# Altium integrated library Microchip Linear.IntLib: 855 symbols (part 14 of 25)
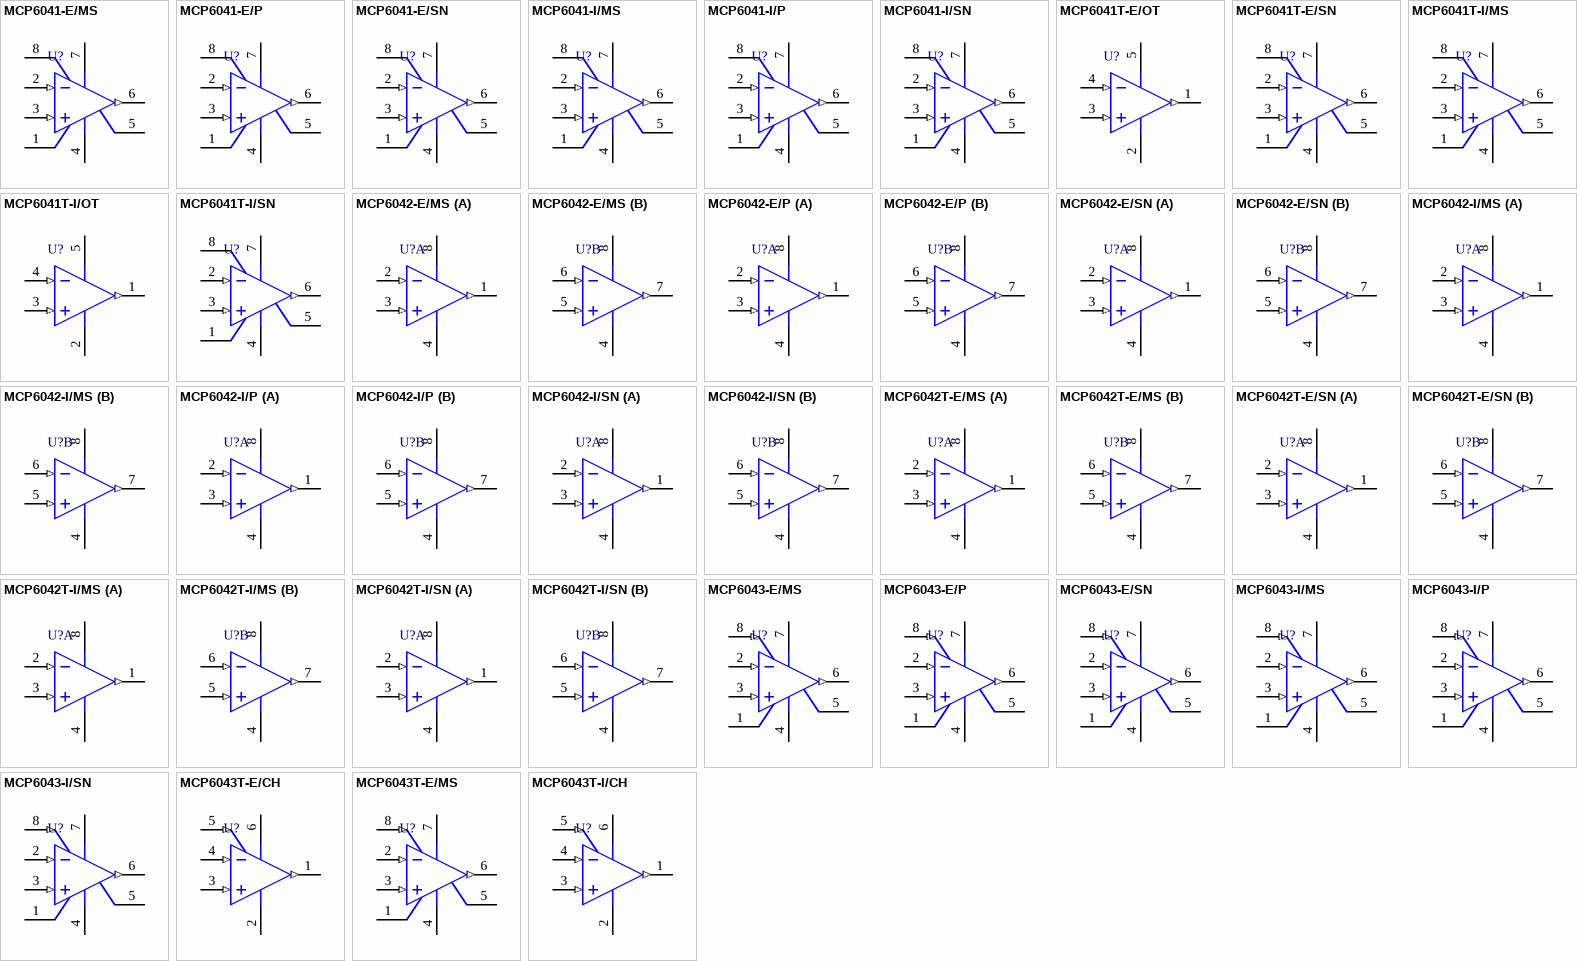
[diagram p54: symbols MCP6041-E/MS to MCP6043T-I/CH]

## MCP6043-I/MS
designator U?
600 nA, Rail-to-Rail Input/Output Operational Amplifier, 8-Pin MSOP, Industrial Temperature; Manufacturer: Microchip; PartNumber: MCP6043-I/MS; DatasheetVersion: revC, Feb-2008; PackageVersion: revBB, Aug-2009; PackageReference: MSOP-MS8; PackageDescription: 8-Lead Plastic Micro Small Outline Package (MS) [MSOP]; Supplier 1: Digi-Key; Supplier Part Number 1: MCP6043-I/MS-ND; Supplier 2: Mouser; Supplier Part Number 2: 579-MCP6043-I/MS; Mounting Technology: Surface Mount; ComponentLink1Description: Manufacturer URL; ComponentLink1URL: http://www.microchip.com/; ComponentLink2Description: Datasheet; ComponentLink2URL: http://ww1.microchip.com/downloads/en/DeviceDoc/21669c.pdf; ComponentLink3Description: Package Specification; ComponentLink3URL: http://www.microchip.com/stellent/groups/techpub_sg/documents/packagingspec/en012702.pdf
footprint MSOP-MS8_N (TSOP, 8-Leads, Body 3x3mm, Pitch 0.65mm, IPC Medium Density)
footprint MSOP-MS8_L (TSOP, 8-Leads, Body 3x3mm, Pitch 0.65mm, IPC High Density)
footprint MSOP-MS8_M (TSOP, 8-Leads, Body 3x3mm, Pitch 0.65mm, IPC Low Density)
pins: 1 NC, 2 VIN- (in), 3 VIN+ (in), 4 VSS (power), 5 NC, 6 VOUT (out), 7 VDD (power), 8 ~{CS} (in)

## MCP6043-I/P
designator U?
600 nA, Rail-to-Rail Input/Output Operational Amplifier, 8-Pin PDIP, Industrial Temperature; Manufacturer: Microchip; PartNumber: MCP6043-I/P; DatasheetVersion: revC, Feb-2008; PackageVersion: revBB, Aug-2009; PackageReference: PDIP300-P8; PackageDescription: 8-Lead Plastic Dual In-Line (P) - 300 mil Body [PDIP]; Supplier 1: Digi-Key; Supplier Part Number 1: MCP6043-I/P-ND; Supplier 2: Farnell; Supplier Part Number 2: 1439416; Supplier 3: Mouser; Supplier Part Number 3: 579-MCP6043-I/P; Mounting Technology: Through Hole; Code_JEDEC: MS-001; ComponentLink1Description: Manufacturer URL; ComponentLink1URL: http://www.microchip.com/; ComponentLink2Description: Datasheet; ComponentLink2URL: http://ww1.microchip.com/downloads/en/DeviceDoc/21669c.pdf; ComponentLink3Description: Package Specification; ComponentLink3URL: http://www.microchip.com/stellent/groups/techpub_sg/documents/packagingspec/en012702.pdf
footprint PDIP300-P8 (DIP, 8-Leads, Row Spacing 7.62mm, Pitch 2.54mm, Body 9.5x6.6mm)
pins: 1 NC, 2 VIN- (in), 3 VIN+ (in), 4 VSS (power), 5 NC, 6 VOUT (out), 7 VDD (power), 8 ~{CS} (in)

## MCP6043-I/SN
designator U?
600 nA, Rail-to-Rail Input/Output Operational Amplifier, 8-Pin SOIC, Industrial Temperature; Manufacturer: Microchip; PartNumber: MCP6043-I/SN; DatasheetVersion: revC, Feb-2008; PackageVersion: revBB, Aug-2009; PackageReference: SOIC-SN8; PackageDescription: 8-Lead Plastic Small Outline (SN) - Narrow, 3.90mm Body [SOIC]; Supplier 1: Digi-Key; Supplier Part Number 1: MCP6043-I/SN-ND; Supplier 2: Farnell; Supplier Part Number 2: 1439417; Supplier 3: Mouser; Supplier Part Number 3: 579-MCP6043-I/SN; Mounting Technology: Surface Mount; Code_JEDEC: MS-012; Code_IPC: SOIC127P600-8; ComponentLink1Description: Manufacturer URL; ComponentLink1URL: http://www.microchip.com/; ComponentLink2Description: Datasheet; ComponentLink2URL: http://ww1.microchip.com/downloads/en/DeviceDoc/21669c.pdf; ComponentLink3Description: Package Specification; ComponentLink3URL: http://www.microchip.com/stellent/groups/techpub_sg/documents/packagingspec/en012702.pdf
footprint SOIC-SN8_N (SOIC, 8-Leads, Body 4.9x3.8mm, Pitch 1.27mm, IPC Medium Density)
footprint SOIC-SN8_L (SOIC, 8-Leads, Body 4.9x3.8mm, Pitch 1.27mm, IPC High Density)
footprint SOIC-SN8_M (SOIC, 8-Leads, Body 4.9x3.8mm, Pitch 1.27mm, IPC Low Density)
pins: 1 NC, 2 VIN- (in), 3 VIN+ (in), 4 VSS (power), 5 NC, 6 VOUT (out), 7 VDD (power), 8 ~{CS} (in)

## MCP6043T-E/CH
designator U?
600 nA, Rail-to-Rail Input/Output Operational Amplifier, 6-Pin SOT-23, Extended Temperature, Tape and Reel; Manufacturer: Microchip; PartNumber: MCP6043T-E/CH; DatasheetVersion: revC, Feb-2008; PackageVersion: revBB, Aug-2009; PackageReference: SOT-23-CH6; PackageDescription: 6-Lead Plastic Small Outline Transistor (CH) [SOT-23]; Supplier 1: Digi-Key; Supplier Part Number 1: MCP6043T-E/CH-ND; Supplier 2: Mouser; Supplier Part Number 2: 579-MCP6043T-E/CH; Mounting Technology: Surface Mount; Code_IPC: SOT26A-6; ComponentLink1Description: Manufacturer URL; ComponentLink1URL: http://www.microchip.com/; ComponentLink2Description: Datasheet; ComponentLink2URL: http://ww1.microchip.com/downloads/en/DeviceDoc/21669c.pdf; ComponentLink3Description: Package Specification; ComponentLink3URL: http://www.microchip.com/stellent/groups/techpub_sg/documents/packagingspec/en012702.pdf
footprint SOT-23-CH6_N (SOT23, 6-Leads, Body 2.9x1.6mm, Pitch 0.95mm, Lead Span 2.7mm, IPC Medium Density)
footprint SOT-23-CH6_L (SOT23, 6-Leads, Body 2.9x1.6mm, Pitch 0.95mm, Lead Span 2.7mm, IPC High Density)
footprint SOT-23-CH6_M (SOT23, 6-Leads, Body 2.9x1.6mm, Pitch 0.95mm, Lead Span 2.7mm, IPC Low Density)
pins: 1 VOUT (out), 2 VSS (power), 3 VIN+ (in), 4 VIN- (in), 5 ~{CS} (in), 6 VDD (power)

## MCP6043T-E/MS
designator U?
600 nA, Rail-to-Rail Input/Output Operational Amplifier, 8-Pin MSOP, Extended Temperature, Tape and Reel; Manufacturer: Microchip; PartNumber: MCP6043T-E/MS; DatasheetVersion: revC, Feb-2008; PackageVersion: revBB, Aug-2009; PackageReference: MSOP-MS8; PackageDescription: 8-Lead Plastic Micro Small Outline Package (MS) [MSOP]; Supplier 1: Digi-Key; Supplier Part Number 1: MCP6043T-E/MS-ND; Supplier 2: Mouser; Supplier Part Number 2: 579-MCP6043T-E/MS; Mounting Technology: Surface Mount; ComponentLink1Description: Manufacturer URL; ComponentLink1URL: http://www.microchip.com/; ComponentLink2Description: Datasheet; ComponentLink2URL: http://ww1.microchip.com/downloads/en/DeviceDoc/21669c.pdf; ComponentLink3Description: Package Specification; ComponentLink3URL: http://www.microchip.com/stellent/groups/techpub_sg/documents/packagingspec/en012702.pdf
footprint MSOP-MS8_N (TSOP, 8-Leads, Body 3x3mm, Pitch 0.65mm, IPC Medium Density)
footprint MSOP-MS8_L (TSOP, 8-Leads, Body 3x3mm, Pitch 0.65mm, IPC High Density)
footprint MSOP-MS8_M (TSOP, 8-Leads, Body 3x3mm, Pitch 0.65mm, IPC Low Density)
pins: 1 NC, 2 VIN- (in), 3 VIN+ (in), 4 VSS (power), 5 NC, 6 VOUT (out), 7 VDD (power), 8 ~{CS} (in)

## MCP6043T-I/CH
designator U?
600 nA, Rail-to-Rail Input/Output Operational Amplifier, 6-Pin SOT-23, Industrial Temperature, Tape and Reel; Manufacturer: Microchip; PartNumber: MCP6043T-I/CH; DatasheetVersion: revC, Feb-2008; PackageVersion: revBB, Aug-2009; PackageReference: SOT-23-CH6; PackageDescription: 6-Lead Plastic Small Outline Transistor (CH) [SOT-23]; Supplier 1: Digi-Key; Supplier Part Number 1: MCP6043T-I/CH-ND; Supplier 2: Newark; Supplier Part Number 2: 56J7439; Supplier 3: Mouser; Supplier Part Number 3: 579-MCP6043T-I/CH; Mounting Technology: Surface Mount; Code_IPC: SOT26A-6; ComponentLink1Description: Manufacturer URL; ComponentLink1URL: http://www.microchip.com/; ComponentLink2Description: Datasheet; ComponentLink2URL: http://ww1.microchip.com/downloads/en/DeviceDoc/21669c.pdf; ComponentLink3Description: Package Specification; ComponentLink3URL: http://www.microchip.com/stellent/groups/techpub_sg/documents/packagingspec/en012702.pdf
footprint SOT-23-CH6_N (SOT23, 6-Leads, Body 2.9x1.6mm, Pitch 0.95mm, Lead Span 2.7mm, IPC Medium Density)
footprint SOT-23-CH6_L (SOT23, 6-Leads, Body 2.9x1.6mm, Pitch 0.95mm, Lead Span 2.7mm, IPC High Density)
footprint SOT-23-CH6_M (SOT23, 6-Leads, Body 2.9x1.6mm, Pitch 0.95mm, Lead Span 2.7mm, IPC Low Density)
pins: 1 VOUT (out), 2 VSS (power), 3 VIN+ (in), 4 VIN- (in), 5 ~{CS} (in), 6 VDD (power)

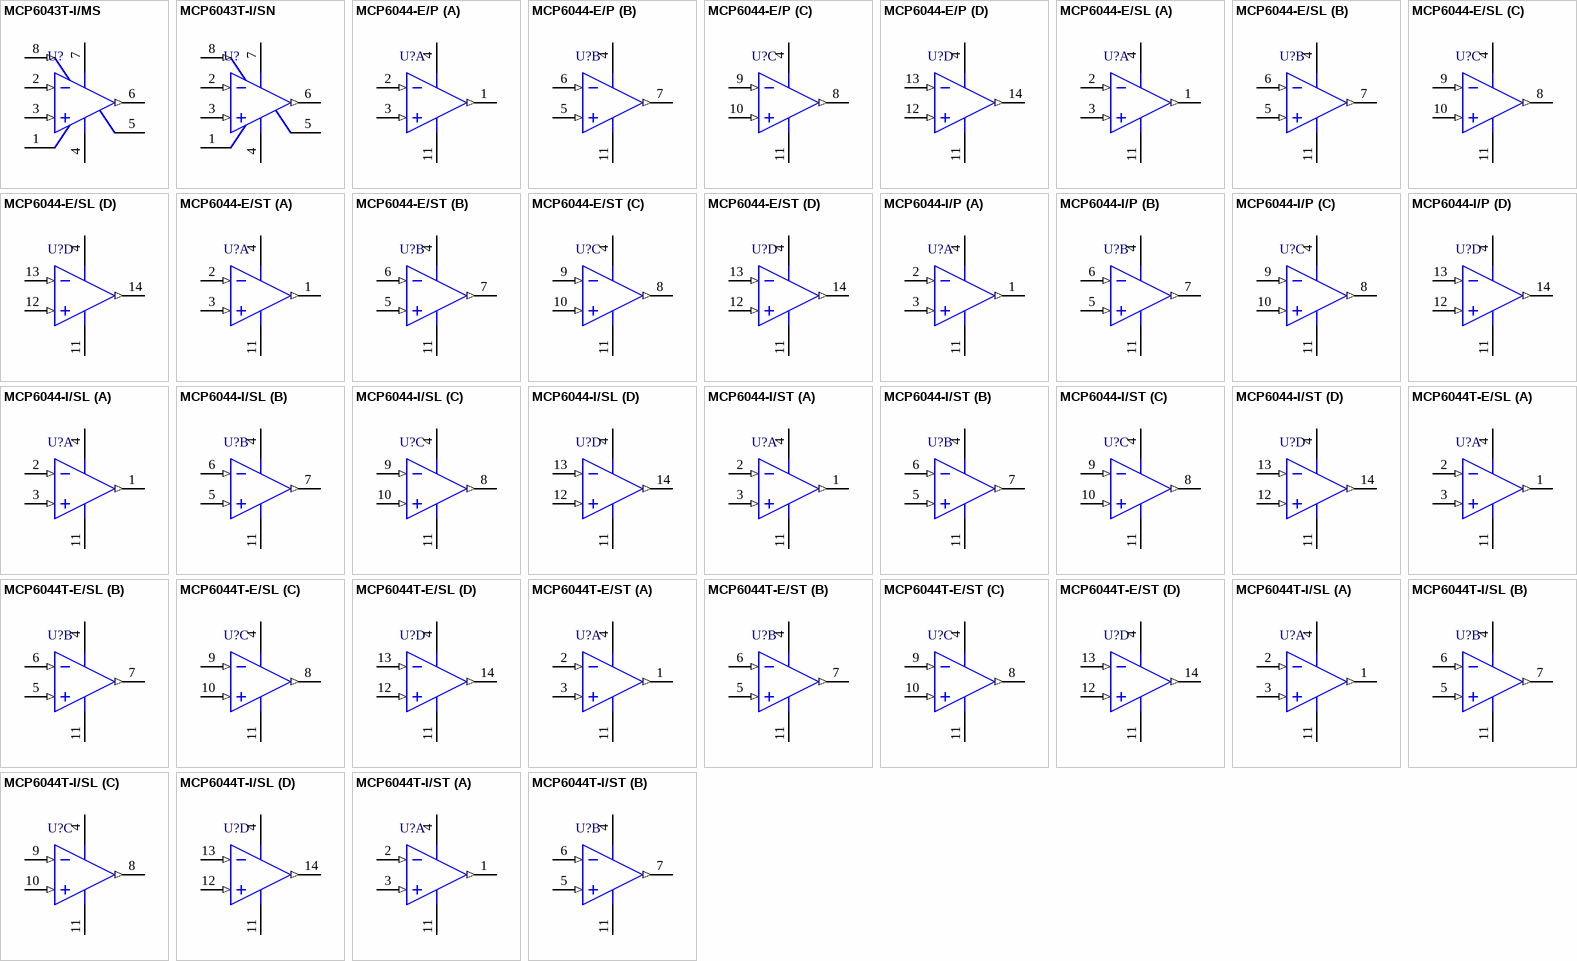
[diagram p22: symbols MCP6043T-I/MS to MCP6044T-I/ST]

## MCP6043T-I/MS
designator U?
600 nA, Rail-to-Rail Input/Output Operational Amplifier, 8-Pin MSOP, Industrial Temperature, Tape and Reel; Manufacturer: Microchip; PartNumber: MCP6043T-I/MS; DatasheetVersion: revC, Feb-2008; PackageVersion: revBB, Aug-2009; PackageReference: MSOP-MS8; PackageDescription: 8-Lead Plastic Micro Small Outline Package (MS) [MSOP]; Supplier 1: Digi-Key; Supplier Part Number 1: MCP6043T-I/MSTR-ND; Supplier 2: Digi-Key; Supplier Part Number 2: MCP6043T-I/MSCT-ND; Supplier 3: Digi-Key; Supplier Part Number 3: MCP6043T-I/MSDKR-ND; Supplier 4: Mouser; Supplier Part Number 4: 579-MCP6043T-I/MS; Mounting Technology: Surface Mount; ComponentLink1Description: Manufacturer URL; ComponentLink1URL: http://www.microchip.com/; ComponentLink2Description: Datasheet; ComponentLink2URL: http://ww1.microchip.com/downloads/en/DeviceDoc/21669c.pdf; ComponentLink3Description: Package Specification; ComponentLink3URL: http://www.microchip.com/stellent/groups/techpub_sg/documents/packagingspec/en012702.pdf
footprint MSOP-MS8_N (TSOP, 8-Leads, Body 3x3mm, Pitch 0.65mm, IPC Medium Density)
footprint MSOP-MS8_L (TSOP, 8-Leads, Body 3x3mm, Pitch 0.65mm, IPC High Density)
footprint MSOP-MS8_M (TSOP, 8-Leads, Body 3x3mm, Pitch 0.65mm, IPC Low Density)
pins: 1 NC, 2 VIN- (in), 3 VIN+ (in), 4 VSS (power), 5 NC, 6 VOUT (out), 7 VDD (power), 8 ~{CS} (in)

## MCP6043T-I/SN
designator U?
600 nA, Rail-to-Rail Input/Output Operational Amplifier, 8-Pin SOIC, Industrial Temperature, Tape and Reel; Manufacturer: Microchip; PartNumber: MCP6043T-I/SN; DatasheetVersion: revC, Feb-2008; PackageVersion: revBB, Aug-2009; PackageReference: SOIC-SN8; PackageDescription: 8-Lead Plastic Small Outline (SN) - Narrow, 3.90mm Body [SOIC]; Supplier 1: Digi-Key; Supplier Part Number 1: MCP6043T-I/SNTR-ND; Supplier 2: Digi-Key; Supplier Part Number 2: MCP6043T-I/SNCT-ND; Supplier 3: Digi-Key; Supplier Part Number 3: MCP6043T-I/SNDKR-ND; Supplier 4: Mouser; Supplier Part Number 4: 579-MCP6043T-I/SN; Mounting Technology: Surface Mount; Code_JEDEC: MS-012; Code_IPC: SOIC127P600-8; ComponentLink1Description: Manufacturer URL; ComponentLink1URL: http://www.microchip.com/; ComponentLink2Description: Datasheet; ComponentLink2URL: http://ww1.microchip.com/downloads/en/DeviceDoc/21669c.pdf; ComponentLink3Description: Package Specification; ComponentLink3URL: http://www.microchip.com/stellent/groups/techpub_sg/documents/packagingspec/en012702.pdf
footprint SOIC-SN8_N (SOIC, 8-Leads, Body 4.9x3.8mm, Pitch 1.27mm, IPC Medium Density)
footprint SOIC-SN8_L (SOIC, 8-Leads, Body 4.9x3.8mm, Pitch 1.27mm, IPC High Density)
footprint SOIC-SN8_M (SOIC, 8-Leads, Body 4.9x3.8mm, Pitch 1.27mm, IPC Low Density)
pins: 1 NC, 2 VIN- (in), 3 VIN+ (in), 4 VSS (power), 5 NC, 6 VOUT (out), 7 VDD (power), 8 ~{CS} (in)

## MCP6044-E/P
designator U?
600 nA, Rail-to-Rail Input/Output Operational Amplifier, 14-Pin PDIP, Extended Temperature; Manufacturer: Microchip; PartNumber: MCP6044-E/P; DatasheetVersion: revC, Feb-2008; PackageVersion: revBB, Aug-2009; PackageReference: PDIP300-P14; PackageDescription: 14-Lead Plastic Dual In-Line (P) - 300 mil Body [PDIP]; Supplier 1: Digi-Key; Supplier Part Number 1: MCP6044-E/P-ND; Supplier 2: Farnell; Supplier Part Number 2: 1840863; Supplier 3: Newark; Supplier Part Number 3: 56J7440; Supplier 4: Mouser; Supplier Part Number 4: 579-MCP6044-E/P; Mounting Technology: Through Hole; ComponentLink1Description: Manufacturer URL; ComponentLink1URL: http://www.microchip.com/; ComponentLink2Description: Datasheet; ComponentLink2URL: http://ww1.microchip.com/downloads/en/DeviceDoc/21669c.pdf; ComponentLink3Description: Package Specification; ComponentLink3URL: http://www.microchip.com/stellent/groups/techpub_sg/documents/packagingspec/en012702.pdf
footprint PDIP300-P14 (DIP, 14-Leads, Row Spacing 7.62mm, Pitch 2.54mm, Body 19.2x6.6mm)
pins on every part: 4 VDD (power), 11 VSS (power)
part A pins: 1 VOUTA (out), 2 VINA- (in), 3 VINA+ (in)
part B pins: 5 VINB+ (in), 6 VINB- (in), 7 VOUTB (out)
part C pins: 8 VOUTC (out), 9 VINC- (in), 10 VINC+ (in)
part D pins: 12 VIND+ (in), 13 VIND- (in), 14 VOUTD (out)

## MCP6044-E/SL
designator U?
600 nA, Rail-to-Rail Input/Output Operational Amplifier, 14-Pin SOIC, Extended Temperature; Manufacturer: Microchip; PartNumber: MCP6044-E/SL; DatasheetVersion: revC, Feb-2008; PackageVersion: revBB, Aug-2009; PackageReference: SOIC-SL14; PackageDescription: 14-Lead Plastic Small Outline (SL) - Narrow, 3.90mm Body [SOIC]; Supplier 1: Digi-Key; Supplier Part Number 1: MCP6044-E/SL-ND; Supplier 2: Farnell; Supplier Part Number 2: 1840864; Supplier 3: Newark; Supplier Part Number 3: 56J7441; Supplier 4: Mouser; Supplier Part Number 4: 579-MCP6044-E/SL; Mounting Technology: Surface Mount; Code_JEDEC: MS-012-AB; Code_IPC: SOIC127P600-14; ComponentLink1Description: Manufacturer URL; ComponentLink1URL: http://www.microchip.com/; ComponentLink2Description: Datasheet; ComponentLink2URL: http://ww1.microchip.com/downloads/en/DeviceDoc/21669c.pdf; ComponentLink3Description: Package Specification; ComponentLink3URL: http://www.microchip.com/stellent/groups/techpub_sg/documents/packagingspec/en012702.pdf
footprint SOIC-SL14_N (SOIC, 14-Leads, Body 8.7x3.9mm, Pitch 1.27mm, IPC Medium Density)
footprint SOIC-SL14_L (SOIC, 14-Leads, Body 8.7x3.9mm, Pitch 1.27mm, IPC High Density)
footprint SOIC-SL14_M (SOIC, 14-Leads, Body 8.7x3.9mm, Pitch 1.27mm, IPC Low Density)
pins on every part: 4 VDD (power), 11 VSS (power)
part A pins: 1 VOUTA (out), 2 VINA- (in), 3 VINA+ (in)
part B pins: 5 VINB+ (in), 6 VINB- (in), 7 VOUTB (out)
part C pins: 8 VOUTC (out), 9 VINC- (in), 10 VINC+ (in)
part D pins: 12 VIND+ (in), 13 VIND- (in), 14 VOUTD (out)

## MCP6044-E/ST
designator U?
600 nA, Rail-to-Rail Input/Output Operational Amplifier, 14-Pin TSSOP, Extended Temperature; Manufacturer: Microchip; PartNumber: MCP6044-E/ST; DatasheetVersion: revC, Feb-2008; PackageVersion: revBB, Aug-2009; PackageReference: TSSOP-ST14; PackageDescription: 14-Lead Plastic Thin Shrink Small Outline (ST) - 4.4mm Body [TSSOP]; Supplier 1: Digi-Key; Supplier Part Number 1: MCP6044-E/ST-ND; Supplier 2: Farnell; Supplier Part Number 2: 1840865; Supplier 3: Newark; Supplier Part Number 3: 56J7442; Supplier 4: Mouser; Supplier Part Number 4: 579-MCP6044-E/ST; Mounting Technology: Surface Mount; ComponentLink1Description: Manufacturer URL; ComponentLink1URL: http://www.microchip.com/; ComponentLink2Description: Datasheet; ComponentLink2URL: http://ww1.microchip.com/downloads/en/DeviceDoc/21669c.pdf; ComponentLink3Description: Package Specification; ComponentLink3URL: http://www.microchip.com/stellent/groups/techpub_sg/documents/packagingspec/en012702.pdf
footprint TSSOP-ST14_N (TSOP, 14-Leads, Body 5x4.4mm, Pitch 0.65mm, IPC Medium Density)
footprint TSSOP-ST14_L (TSOP, 14-Leads, Body 5x4.4mm, Pitch 0.65mm, IPC High Density)
footprint TSSOP-ST14_M (TSOP, 14-Leads, Body 5x4.4mm, Pitch 0.65mm, IPC Low Density)
pins on every part: 4 VDD (power), 11 VSS (power)
part A pins: 1 VOUTA (out), 2 VINA- (in), 3 VINA+ (in)
part B pins: 5 VINB+ (in), 6 VINB- (in), 7 VOUTB (out)
part C pins: 8 VOUTC (out), 9 VINC- (in), 10 VINC+ (in)
part D pins: 12 VIND+ (in), 13 VIND- (in), 14 VOUTD (out)

## MCP6044-I/P
designator U?
600 nA, Rail-to-Rail Input/Output Operational Amplifier, 14-Pin PDIP, Industrial Temperature; Manufacturer: Microchip; PartNumber: MCP6044-I/P; DatasheetVersion: revC, Feb-2008; PackageVersion: revBB, Aug-2009; PackageReference: PDIP300-P14; PackageDescription: 14-Lead Plastic Dual In-Line (P) - 300 mil Body [PDIP]; Supplier 1: Digi-Key; Supplier Part Number 1: MCP6044-I/P-ND; Supplier 2: Farnell; Supplier Part Number 2: 1084312; Supplier 3: Newark; Supplier Part Number 3: 24M4483; Supplier 4: Mouser; Supplier Part Number 4: 579-MCP6044IP; Mounting Technology: Through Hole; ComponentLink1Description: Manufacturer URL; ComponentLink1URL: http://www.microchip.com/; ComponentLink2Description: Datasheet; ComponentLink2URL: http://ww1.microchip.com/downloads/en/DeviceDoc/21669c.pdf; ComponentLink3Description: Package Specification; ComponentLink3URL: http://www.microchip.com/stellent/groups/techpub_sg/documents/packagingspec/en012702.pdf
footprint PDIP300-P14 (DIP, 14-Leads, Row Spacing 7.62mm, Pitch 2.54mm, Body 19.2x6.6mm)
pins on every part: 4 VDD (power), 11 VSS (power)
part A pins: 1 VOUTA (out), 2 VINA- (in), 3 VINA+ (in)
part B pins: 5 VINB+ (in), 6 VINB- (in), 7 VOUTB (out)
part C pins: 8 VOUTC (out), 9 VINC- (in), 10 VINC+ (in)
part D pins: 12 VIND+ (in), 13 VIND- (in), 14 VOUTD (out)

## MCP6044-I/SL
designator U?
600 nA, Rail-to-Rail Input/Output Operational Amplifier, 14-Pin SOIC, Industrial Temperature; Manufacturer: Microchip; PartNumber: MCP6044-I/SL; DatasheetVersion: revC, Feb-2008; PackageVersion: revBB, Aug-2009; PackageReference: SOIC-SL14; PackageDescription: 14-Lead Plastic Small Outline (SL) - Narrow, 3.90mm Body [SOIC]; Supplier 1: Digi-Key; Supplier Part Number 1: MCP6044-I/SL-ND; Supplier 2: Farnell; Supplier Part Number 2: 9758704; Supplier 3: Newark; Supplier Part Number 3: 24M4484; Supplier 4: Newark; Supplier Part Number 4: 33C0880; Supplier 5: Mouser; Supplier Part Number 5: 579-MCP6044ISL; Mounting Technology: Surface Mount; Code_JEDEC: MS-012-AB; Code_IPC: SOIC127P600-14; ComponentLink1Description: Manufacturer URL; ComponentLink1URL: http://www.microchip.com/; ComponentLink2Description: Datasheet; ComponentLink2URL: http://ww1.microchip.com/downloads/en/DeviceDoc/21669c.pdf; ComponentLink3Description: Package Specification; ComponentLink3URL: http://www.microchip.com/stellent/groups/techpub_sg/documents/packagingspec/en012702.pdf
footprint SOIC-SL14_N (SOIC, 14-Leads, Body 8.7x3.9mm, Pitch 1.27mm, IPC Medium Density)
footprint SOIC-SL14_L (SOIC, 14-Leads, Body 8.7x3.9mm, Pitch 1.27mm, IPC High Density)
footprint SOIC-SL14_M (SOIC, 14-Leads, Body 8.7x3.9mm, Pitch 1.27mm, IPC Low Density)
pins on every part: 4 VDD (power), 11 VSS (power)
part A pins: 1 VOUTA (out), 2 VINA- (in), 3 VINA+ (in)
part B pins: 5 VINB+ (in), 6 VINB- (in), 7 VOUTB (out)
part C pins: 8 VOUTC (out), 9 VINC- (in), 10 VINC+ (in)
part D pins: 12 VIND+ (in), 13 VIND- (in), 14 VOUTD (out)

## MCP6044-I/ST
designator U?
600 nA, Rail-to-Rail Input/Output Operational Amplifier, 14-Pin TSSOP, Industrial Temperature; Manufacturer: Microchip; PartNumber: MCP6044-I/ST; DatasheetVersion: revC, Feb-2008; PackageVersion: revBB, Aug-2009; PackageReference: TSSOP-ST14; PackageDescription: 14-Lead Plastic Thin Shrink Small Outline (ST) - 4.4mm Body [TSSOP]; Supplier 1: Digi-Key; Supplier Part Number 1: MCP6044-I/ST-ND; Supplier 2: Newark; Supplier Part Number 2: 92C4221; Supplier 3: Mouser; Supplier Part Number 3: 579-MCP6044-I/ST; Mounting Technology: Surface Mount; ComponentLink1Description: Manufacturer URL; ComponentLink1URL: http://www.microchip.com/; ComponentLink2Description: Datasheet; ComponentLink2URL: http://ww1.microchip.com/downloads/en/DeviceDoc/21669c.pdf; ComponentLink3Description: Package Specification; ComponentLink3URL: http://www.microchip.com/stellent/groups/techpub_sg/documents/packagingspec/en012702.pdf
footprint TSSOP-ST14_N (TSOP, 14-Leads, Body 5x4.4mm, Pitch 0.65mm, IPC Medium Density)
footprint TSSOP-ST14_L (TSOP, 14-Leads, Body 5x4.4mm, Pitch 0.65mm, IPC High Density)
footprint TSSOP-ST14_M (TSOP, 14-Leads, Body 5x4.4mm, Pitch 0.65mm, IPC Low Density)
pins on every part: 4 VDD (power), 11 VSS (power)
part A pins: 1 VOUTA (out), 2 VINA- (in), 3 VINA+ (in)
part B pins: 5 VINB+ (in), 6 VINB- (in), 7 VOUTB (out)
part C pins: 8 VOUTC (out), 9 VINC- (in), 10 VINC+ (in)
part D pins: 12 VIND+ (in), 13 VIND- (in), 14 VOUTD (out)

## MCP6044T-E/SL
designator U?
600 nA, Rail-to-Rail Input/Output Operational Amplifier, 14-Pin SOIC, Extended Temperature, Tape and Reel; Manufacturer: Microchip; PartNumber: MCP6044T-E/SL; DatasheetVersion: revC, Feb-2008; PackageVersion: revBB, Aug-2009; PackageReference: SOIC-SL14; PackageDescription: 14-Lead Plastic Small Outline (SL) - Narrow, 3.90mm Body [SOIC]; Supplier 1: Digi-Key; Supplier Part Number 1: MCP6044T-E/SL-ND; Supplier 2: Mouser; Supplier Part Number 2: 579-MCP6044T-E/SL; Mounting Technology: Surface Mount; Code_JEDEC: MS-012-AB; Code_IPC: SOIC127P600-14; ComponentLink1Description: Manufacturer URL; ComponentLink1URL: http://www.microchip.com/; ComponentLink2Description: Datasheet; ComponentLink2URL: http://ww1.microchip.com/downloads/en/DeviceDoc/21669c.pdf; ComponentLink3Description: Package Specification; ComponentLink3URL: http://www.microchip.com/stellent/groups/techpub_sg/documents/packagingspec/en012702.pdf
footprint SOIC-SL14_N (SOIC, 14-Leads, Body 8.7x3.9mm, Pitch 1.27mm, IPC Medium Density)
footprint SOIC-SL14_L (SOIC, 14-Leads, Body 8.7x3.9mm, Pitch 1.27mm, IPC High Density)
footprint SOIC-SL14_M (SOIC, 14-Leads, Body 8.7x3.9mm, Pitch 1.27mm, IPC Low Density)
pins on every part: 4 VDD (power), 11 VSS (power)
part A pins: 1 VOUTA (out), 2 VINA- (in), 3 VINA+ (in)
part B pins: 5 VINB+ (in), 6 VINB- (in), 7 VOUTB (out)
part C pins: 8 VOUTC (out), 9 VINC- (in), 10 VINC+ (in)
part D pins: 12 VIND+ (in), 13 VIND- (in), 14 VOUTD (out)

## MCP6044T-E/ST
designator U?
600 nA, Rail-to-Rail Input/Output Operational Amplifier, 14-Pin TSSOP, Extended Temperature, Tape and Reel; Manufacturer: Microchip; PartNumber: MCP6044T-E/ST; DatasheetVersion: revC, Feb-2008; PackageVersion: revBB, Aug-2009; PackageReference: TSSOP-ST14; PackageDescription: 14-Lead Plastic Thin Shrink Small Outline (ST) - 4.4mm Body [TSSOP]; Supplier 1: Digi-Key; Supplier Part Number 1: MCP6044T-E/ST-ND; Supplier 2: Mouser; Supplier Part Number 2: 579-MCP6044T-E/ST; Mounting Technology: Surface Mount; ComponentLink1Description: Manufacturer URL; ComponentLink1URL: http://www.microchip.com/; ComponentLink2Description: Datasheet; ComponentLink2URL: http://ww1.microchip.com/downloads/en/DeviceDoc/21669c.pdf; ComponentLink3Description: Package Specification; ComponentLink3URL: http://www.microchip.com/stellent/groups/techpub_sg/documents/packagingspec/en012702.pdf
footprint TSSOP-ST14_N (TSOP, 14-Leads, Body 5x4.4mm, Pitch 0.65mm, IPC Medium Density)
footprint TSSOP-ST14_L (TSOP, 14-Leads, Body 5x4.4mm, Pitch 0.65mm, IPC High Density)
footprint TSSOP-ST14_M (TSOP, 14-Leads, Body 5x4.4mm, Pitch 0.65mm, IPC Low Density)
pins on every part: 4 VDD (power), 11 VSS (power)
part A pins: 1 VOUTA (out), 2 VINA- (in), 3 VINA+ (in)
part B pins: 5 VINB+ (in), 6 VINB- (in), 7 VOUTB (out)
part C pins: 8 VOUTC (out), 9 VINC- (in), 10 VINC+ (in)
part D pins: 12 VIND+ (in), 13 VIND- (in), 14 VOUTD (out)

## MCP6044T-I/SL
designator U?
600 nA, Rail-to-Rail Input/Output Operational Amplifier, 14-Pin SOIC, Industrial Temperature, Tape and Reel; Manufacturer: Microchip; PartNumber: MCP6044T-I/SL; DatasheetVersion: revC, Feb-2008; PackageVersion: revBB, Aug-2009; PackageReference: SOIC-SL14; PackageDescription: 14-Lead Plastic Small Outline (SL) - Narrow, 3.90mm Body [SOIC]; Supplier 1: Digi-Key; Supplier Part Number 1: MCP6044T-I/SLTR-ND; Supplier 2: Digi-Key; Supplier Part Number 2: MCP6044T-I/SLCT-ND; Supplier 3: Digi-Key; Supplier Part Number 3: MCP6044T-I/SLDKR-ND; Supplier 4: Newark; Supplier Part Number 4: 92C4222; Supplier 5: Mouser; Supplier Part Number 5: 579-MCP6044T-I/SL; Mounting Technology: Surface Mount; Code_JEDEC: MS-012-AB; Code_IPC: SOIC127P600-14; ComponentLink1Description: Manufacturer URL; ComponentLink1URL: http://www.microchip.com/; ComponentLink2Description: Datasheet; ComponentLink2URL: http://ww1.microchip.com/downloads/en/DeviceDoc/21669c.pdf; ComponentLink3Description: Package Specification; ComponentLink3URL: http://www.microchip.com/stellent/groups/techpub_sg/documents/packagingspec/en012702.pdf
footprint SOIC-SL14_N (SOIC, 14-Leads, Body 8.7x3.9mm, Pitch 1.27mm, IPC Medium Density)
footprint SOIC-SL14_L (SOIC, 14-Leads, Body 8.7x3.9mm, Pitch 1.27mm, IPC High Density)
footprint SOIC-SL14_M (SOIC, 14-Leads, Body 8.7x3.9mm, Pitch 1.27mm, IPC Low Density)
pins on every part: 4 VDD (power), 11 VSS (power)
part A pins: 1 VOUTA (out), 2 VINA- (in), 3 VINA+ (in)
part B pins: 5 VINB+ (in), 6 VINB- (in), 7 VOUTB (out)
part C pins: 8 VOUTC (out), 9 VINC- (in), 10 VINC+ (in)
part D pins: 12 VIND+ (in), 13 VIND- (in), 14 VOUTD (out)

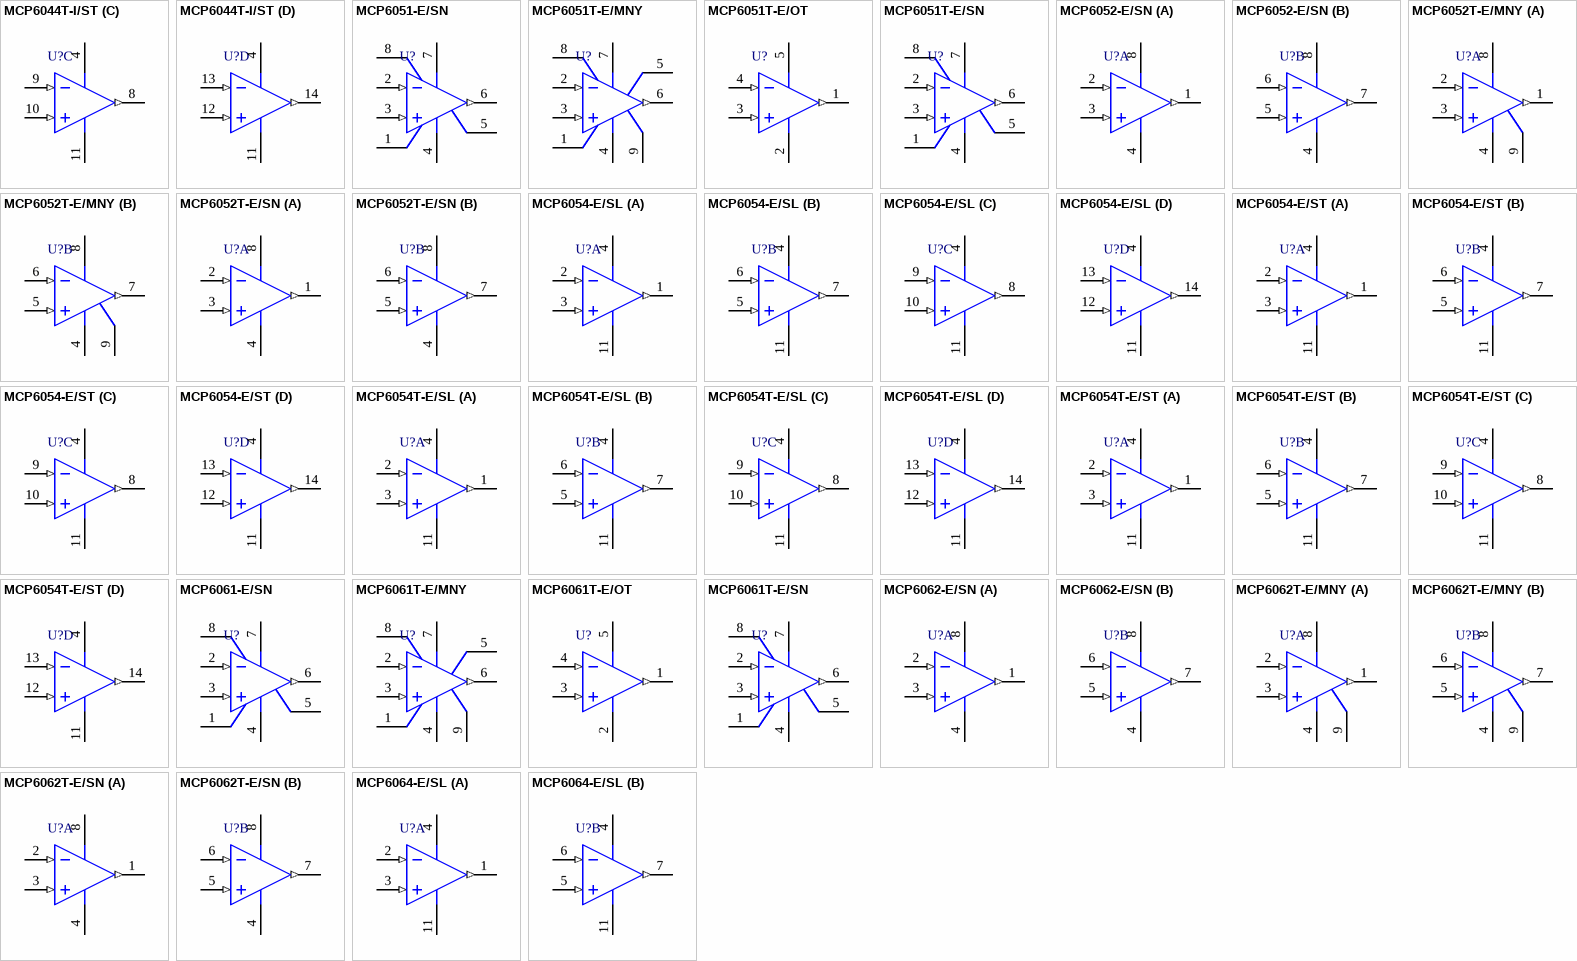
[diagram p23: symbols MCP6044T-I/ST to MCP6064-E/SL]

## MCP6044T-I/ST
designator U?
600 nA, Rail-to-Rail Input/Output Operational Amplifier, 14-Pin TSSOP, Industrial Temperature, Tape and Reel; Manufacturer: Microchip; PartNumber: MCP6044T-I/ST; DatasheetVersion: revC, Feb-2008; PackageVersion: revBB, Aug-2009; PackageReference: TSSOP-ST14; PackageDescription: 14-Lead Plastic Thin Shrink Small Outline (ST) - 4.4mm Body [TSSOP]; Supplier 1: Digi-Key; Supplier Part Number 1: MCP6044T-I/STTR-ND; Supplier 2: Digi-Key; Supplier Part Number 2: MCP6044T-I/STCT-ND; Supplier 3: Digi-Key; Supplier Part Number 3: MCP6044T-I/STDKR-ND; Supplier 4: Newark; Supplier Part Number 4: 92C4223; Supplier 5: Mouser; Supplier Part Number 5: 579-MCP6044T-I/ST; Mounting Technology: Surface Mount; ComponentLink1Description: Manufacturer URL; ComponentLink1URL: http://www.microchip.com/; ComponentLink2Description: Datasheet; ComponentLink2URL: http://ww1.microchip.com/downloads/en/DeviceDoc/21669c.pdf; ComponentLink3Description: Package Specification; ComponentLink3URL: http://www.microchip.com/stellent/groups/techpub_sg/documents/packagingspec/en012702.pdf
footprint TSSOP-ST14_N (TSOP, 14-Leads, Body 5x4.4mm, Pitch 0.65mm, IPC Medium Density)
footprint TSSOP-ST14_L (TSOP, 14-Leads, Body 5x4.4mm, Pitch 0.65mm, IPC High Density)
footprint TSSOP-ST14_M (TSOP, 14-Leads, Body 5x4.4mm, Pitch 0.65mm, IPC Low Density)
pins on every part: 4 VDD (power), 11 VSS (power)
part A pins: 1 VOUTA (out), 2 VINA- (in), 3 VINA+ (in)
part B pins: 5 VINB+ (in), 6 VINB- (in), 7 VOUTB (out)
part C pins: 8 VOUTC (out), 9 VINC- (in), 10 VINC+ (in)
part D pins: 12 VIND+ (in), 13 VIND- (in), 14 VOUTD (out)

## MCP6051-E/SN
designator U?
30 µA, High Precision Op Amp, 8-Pin SOIC, Extended Temperature; Manufacturer: Microchip; PartNumber: MCP6051-E/SN; DatasheetVersion: revB, Dec-2010; PackageVersion: revBB, Aug-2009; PackageReference: SOIC-SN8; PackageDescription: 8-Lead Plastic Small Outline (SN) - Narrow, 3.90mm Body [SOIC]; Supplier 1: Digi-Key; Supplier Part Number 1: MCP6051-E/SN-ND; Supplier 2: Farnell; Supplier Part Number 2: 1715853; Supplier 3: Newark; Supplier Part Number 3: 07P9528; Supplier 4: Mouser; Supplier Part Number 4: 579-MCP6051-E/SN; Mounting Technology: Surface Mount; Code_JEDEC: MS-012; Code_IPC: SOIC127P600-8; ComponentLink1Description: Manufacturer URL; ComponentLink1URL: http://www.microchip.com/; ComponentLink2Description: Datasheet; ComponentLink2URL: http://ww1.microchip.com/downloads/en/DeviceDoc/MCP6051_DS22182B.pdf; ComponentLink3Description: Package Specification; ComponentLink3URL: http://www.microchip.com/stellent/groups/techpub_sg/documents/packagingspec/en012702.pdf
footprint SOIC-SN8_N (SOIC, 8-Leads, Body 4.9x3.8mm, Pitch 1.27mm, IPC Medium Density)
footprint SOIC-SN8_L (SOIC, 8-Leads, Body 4.9x3.8mm, Pitch 1.27mm, IPC High Density)
footprint SOIC-SN8_M (SOIC, 8-Leads, Body 4.9x3.8mm, Pitch 1.27mm, IPC Low Density)
pins: 1 NC, 2 VIN- (in), 3 VIN+ (in), 4 VSS (power), 5 NC, 6 VOUT (out), 7 VDD (power), 8 NC

## MCP6051T-E/MNY
designator U?
30 µA, High Precision Op Amp, 8-Pin TDFN, Extended Temperature, Tape and Reel; Manufacturer: Microchip; PartNumber: MCP6051T-E/MNY; DatasheetVersion: revB, Dec-2010; PackageVersion: revBB, Aug-2009; PackageReference: TDFN-MN8; PackageDescription: 8-Lead Plastic Dual Flat, No Lead Package (MN) - 2x3x0.75mm Body [TDFN]; Supplier 1: Digi-Key; Supplier Part Number 1: MCP6051T-E/MNYTR-ND; Supplier 2: Digi-Key; Supplier Part Number 2: MCP6051T-E/MNYCT-ND; Supplier 3: Digi-Key; Supplier Part Number 3: MCP6051T-E/MNYDKR-ND; Supplier 4: Farnell; Supplier Part Number 4: 1852057; Supplier 5: Newark; Supplier Part Number 5: 07P9529; Supplier 6: Mouser; Supplier Part Number 6: 579-MCP6051T-E/MNY; Mounting Technology: Surface Mount; ComponentLink1Description: Manufacturer URL; ComponentLink1URL: http://www.microchip.com/; ComponentLink2Description: Datasheet; ComponentLink2URL: http://ww1.microchip.com/downloads/en/DeviceDoc/MCP6051_DS22182B.pdf; ComponentLink3Description: Package Specification; ComponentLink3URL: http://www.microchip.com/stellent/groups/techpub_sg/documents/packagingspec/en012702.pdf
footprint TDFN-MN8 (SON, 8-Leads, Body 2x3mm, Pitch 0.5mm, Microchip Recommended)
pins: 1 NC, 2 VIN- (in), 3 VIN+ (in), 4 VSS (power), 5 NC, 6 VOUT (out), 7 VDD (power), 8 NC, 9 EP (power)

## MCP6051T-E/OT
designator U?
30 µA, High Precision Op Amp, 5-Pin SOT-23, Extended Temperature, Tape and Reel; Manufacturer: Microchip; PartNumber: MCP6051T-E/OT; DatasheetVersion: revB, Dec-2010; PackageVersion: revBB, Aug-2009; PackageReference: SOT-23-OT5; PackageDescription: 5-Lead Plastic Small Outline Transistor (OT) [SOT-23]; Supplier 1: Digi-Key; Supplier Part Number 1: MCP6051T-E/OTTR-ND; Supplier 2: Digi-Key; Supplier Part Number 2: MCP6051T-E/OTCT-ND; Supplier 3: Digi-Key; Supplier Part Number 3: MCP6051T-E/OTDKR-ND; Supplier 4: Farnell; Supplier Part Number 4: 1863958RL; Supplier 5: Farnell; Supplier Part Number 5: 1863958; Supplier 6: Newark; Supplier Part Number 6: 23T2816; Supplier 7: Mouser; Supplier Part Number 7: 579-MCP6051T-E/OT; Mounting Technology: Surface Mount; Code_IPC: SOT23-5; ComponentLink1Description: Manufacturer URL; ComponentLink1URL: http://www.microchip.com/; ComponentLink2Description: Datasheet; ComponentLink2URL: http://ww1.microchip.com/downloads/en/DeviceDoc/MCP6051_DS22182B.pdf; ComponentLink3Description: Package Specification; ComponentLink3URL: http://www.microchip.com/stellent/groups/techpub_sg/documents/packagingspec/en012702.pdf
footprint SOT-23-OT5_N (SOT23, 5-Leads, Body 2.9x1.6mm, Pitch 0.95mm, Lead Span 2.7mm, IPC Medium Density)
footprint SOT-23-OT5_L (SOT23, 5-Leads, Body 2.9x1.6mm, Pitch 0.95mm, Lead Span 2.7mm, IPC High Density)
footprint SOT-23-OT5_M (SOT23, 5-Leads, Body 2.9x1.6mm, Pitch 0.95mm, Lead Span 2.7mm, IPC Low Density)
pins: 1 VOUT (out), 2 VSS (power), 3 VIN+ (in), 4 VIN- (in), 5 VDD (power)

## MCP6051T-E/SN
designator U?
30 µA, High Precision Op Amp, 8-Pin SOIC, Extended Temperature, Tape and Reel; Manufacturer: Microchip; PartNumber: MCP6051T-E/SN; DatasheetVersion: revB, Dec-2010; PackageVersion: revBB, Aug-2009; PackageReference: SOIC-SN8; PackageDescription: 8-Lead Plastic Small Outline (SN) - Narrow, 3.90mm Body [SOIC]; Supplier 1: Digi-Key; Supplier Part Number 1: MCP6051T-E/SN-ND; Supplier 2: Mouser; Supplier Part Number 2: 579-MCP6051T-E/SN; Mounting Technology: Surface Mount; Code_JEDEC: MS-012; Code_IPC: SOIC127P600-8; ComponentLink1Description: Manufacturer URL; ComponentLink1URL: http://www.microchip.com/; ComponentLink2Description: Datasheet; ComponentLink2URL: http://ww1.microchip.com/downloads/en/DeviceDoc/MCP6051_DS22182B.pdf; ComponentLink3Description: Package Specification; ComponentLink3URL: http://www.microchip.com/stellent/groups/techpub_sg/documents/packagingspec/en012702.pdf
footprint SOIC-SN8_N (SOIC, 8-Leads, Body 4.9x3.8mm, Pitch 1.27mm, IPC Medium Density)
footprint SOIC-SN8_L (SOIC, 8-Leads, Body 4.9x3.8mm, Pitch 1.27mm, IPC High Density)
footprint SOIC-SN8_M (SOIC, 8-Leads, Body 4.9x3.8mm, Pitch 1.27mm, IPC Low Density)
pins: 1 NC, 2 VIN- (in), 3 VIN+ (in), 4 VSS (power), 5 NC, 6 VOUT (out), 7 VDD (power), 8 NC

## MCP6052-E/SN
designator U?
30 µA, High Precision Dual Op Amp, 8-Pin SOIC, Extended Temperature; Manufacturer: Microchip; PartNumber: MCP6052-E/SN; DatasheetVersion: revB, Dec-2010; PackageVersion: revBB, Aug-2009; PackageReference: SOIC-SN8; PackageDescription: 8-Lead Plastic Small Outline (SN) - Narrow, 3.90mm Body [SOIC]; Supplier 1: Digi-Key; Supplier Part Number 1: MCP6052-E/SN-ND; Supplier 2: Farnell; Supplier Part Number 2: 1715854; Supplier 3: Newark; Supplier Part Number 3: 07P9531; Supplier 4: Mouser; Supplier Part Number 4: 579-MCP6052-E/SN; Mounting Technology: Surface Mount; Code_JEDEC: MS-012; Code_IPC: SOIC127P600-8; ComponentLink1Description: Manufacturer URL; ComponentLink1URL: http://www.microchip.com/; ComponentLink2Description: Datasheet; ComponentLink2URL: http://ww1.microchip.com/downloads/en/DeviceDoc/MCP6051_DS22182B.pdf; ComponentLink3Description: Package Specification; ComponentLink3URL: http://www.microchip.com/stellent/groups/techpub_sg/documents/packagingspec/en012702.pdf
footprint SOIC-SN8_N (SOIC, 8-Leads, Body 4.9x3.8mm, Pitch 1.27mm, IPC Medium Density)
footprint SOIC-SN8_L (SOIC, 8-Leads, Body 4.9x3.8mm, Pitch 1.27mm, IPC High Density)
footprint SOIC-SN8_M (SOIC, 8-Leads, Body 4.9x3.8mm, Pitch 1.27mm, IPC Low Density)
pins on every part: 4 VSS (power), 8 VDD (power)
part A pins: 1 VOUTA (out), 2 VINA- (in), 3 VINA+ (in)
part B pins: 5 VINB+ (in), 6 VINB- (in), 7 VOUTB (out)

## MCP6052T-E/MNY
designator U?
30 µA, High Precision Dual Op Amp, 8-Pin TDFN, Extended Temperature, Tape and Reel; Manufacturer: Microchip; PartNumber: MCP6052T-E/MNY; DatasheetVersion: revB, Dec-2010; PackageVersion: revBB, Aug-2009; PackageReference: TDFN-MN8; PackageDescription: 8-Lead Plastic Dual Flat, No Lead Package (MN) - 2x3x0.75mm Body [TDFN]; Supplier 1: Digi-Key; Supplier Part Number 1: MCP6052T-E/MNYTR-ND; Supplier 2: Digi-Key; Supplier Part Number 2: MCP6052T-E/MNYCT-ND; Supplier 3: Digi-Key; Supplier Part Number 3: MCP6052T-E/MNYDKR-ND; Supplier 4: Farnell; Supplier Part Number 4: 1852058; Supplier 5: Mouser; Supplier Part Number 5: 579-MCP6052T-E/MNY; Mounting Technology: Surface Mount; ComponentLink1Description: Manufacturer URL; ComponentLink1URL: http://www.microchip.com/; ComponentLink2Description: Datasheet; ComponentLink2URL: http://ww1.microchip.com/downloads/en/DeviceDoc/MCP6051_DS22182B.pdf; ComponentLink3Description: Package Specification; ComponentLink3URL: http://www.microchip.com/stellent/groups/techpub_sg/documents/packagingspec/en012702.pdf
footprint TDFN-MN8 (SON, 8-Leads, Body 2x3mm, Pitch 0.5mm, Microchip Recommended)
pins on every part: 4 VSS (power), 8 VDD (power), 9 EP (power)
part A pins: 1 VOUTA (out), 2 VINA- (in), 3 VINA+ (in)
part B pins: 5 VINB+ (in), 6 VINB- (in), 7 VOUTB (out)

## MCP6052T-E/SN
designator U?
30 µA, High Precision Dual Op Amp, 8-Pin SOIC, Extended Temperature, Tape and Reel; Manufacturer: Microchip; PartNumber: MCP6052T-E/SN; DatasheetVersion: revB, Dec-2010; PackageVersion: revBB, Aug-2009; PackageReference: SOIC-SN8; PackageDescription: 8-Lead Plastic Small Outline (SN) - Narrow, 3.90mm Body [SOIC]; Supplier 1: Digi-Key; Supplier Part Number 1: MCP6052T-E/SN-ND; Supplier 2: Mouser; Supplier Part Number 2: 579-MCP6052T-E/SN; Mounting Technology: Surface Mount; Code_JEDEC: MS-012; Code_IPC: SOIC127P600-8; ComponentLink1Description: Manufacturer URL; ComponentLink1URL: http://www.microchip.com/; ComponentLink2Description: Datasheet; ComponentLink2URL: http://ww1.microchip.com/downloads/en/DeviceDoc/MCP6051_DS22182B.pdf; ComponentLink3Description: Package Specification; ComponentLink3URL: http://www.microchip.com/stellent/groups/techpub_sg/documents/packagingspec/en012702.pdf
footprint SOIC-SN8_N (SOIC, 8-Leads, Body 4.9x3.8mm, Pitch 1.27mm, IPC Medium Density)
footprint SOIC-SN8_L (SOIC, 8-Leads, Body 4.9x3.8mm, Pitch 1.27mm, IPC High Density)
footprint SOIC-SN8_M (SOIC, 8-Leads, Body 4.9x3.8mm, Pitch 1.27mm, IPC Low Density)
pins on every part: 4 VSS (power), 8 VDD (power)
part A pins: 1 VOUTA (out), 2 VINA- (in), 3 VINA+ (in)
part B pins: 5 VINB+ (in), 6 VINB- (in), 7 VOUTB (out)

## MCP6054-E/SL
designator U?
30 µA, High Precision Quad Op Amp, 14-Pin SOIC, Extended Temperature; Manufacturer: Microchip; PartNumber: MCP6054-E/SL; DatasheetVersion: revB, Dec-2010; PackageVersion: revBB, Aug-2009; PackageReference: SOIC-SL14; PackageDescription: 14-Lead Plastic Small Outline (SL) - Narrow, 3.90mm Body [SOIC]; Supplier 1: Digi-Key; Supplier Part Number 1: MCP6054-E/SL-ND; Supplier 2: Farnell; Supplier Part Number 2: 1715855; Supplier 3: Newark; Supplier Part Number 3: 07P9534; Supplier 4: Mouser; Supplier Part Number 4: 579-MCP6054-E/SL; Mounting Technology: Surface Mount; Code_JEDEC: MS-012-AB; Code_IPC: SOIC127P600-14; ComponentLink1Description: Manufacturer URL; ComponentLink1URL: http://www.microchip.com/; ComponentLink2Description: Datasheet; ComponentLink2URL: http://ww1.microchip.com/downloads/en/DeviceDoc/MCP6051_DS22182B.pdf; ComponentLink3Description: Package Specification; ComponentLink3URL: http://www.microchip.com/stellent/groups/techpub_sg/documents/packagingspec/en012702.pdf
footprint SOIC-SL14_N (SOIC, 14-Leads, Body 8.7x3.9mm, Pitch 1.27mm, IPC Medium Density)
footprint SOIC-SL14_L (SOIC, 14-Leads, Body 8.7x3.9mm, Pitch 1.27mm, IPC High Density)
footprint SOIC-SL14_M (SOIC, 14-Leads, Body 8.7x3.9mm, Pitch 1.27mm, IPC Low Density)
pins on every part: 4 VDD (power), 11 VSS (power)
part A pins: 1 VOUTA (out), 2 VINA- (in), 3 VINA+ (in)
part B pins: 5 VINB+ (in), 6 VINB- (in), 7 VOUTB (out)
part C pins: 8 VOUTC (out), 9 VINC- (in), 10 VINC+ (in)
part D pins: 12 VIND+ (in), 13 VIND- (in), 14 VOUTD (out)

## MCP6054-E/ST
designator U?
30 µA, High Precision Quad Op Amp, 14-Pin TSSOP, Extended Temperature; Manufacturer: Microchip; PartNumber: MCP6054-E/ST; DatasheetVersion: revB, Dec-2010; PackageVersion: revBB, Aug-2009; PackageReference: TSSOP-ST14; PackageDescription: 14-Lead Plastic Thin Shrink Small Outline (ST) - 4.4mm Body [TSSOP]; Supplier 1: Digi-Key; Supplier Part Number 1: MCP6054-E/ST-ND; Supplier 2: Farnell; Supplier Part Number 2: 1852059; Supplier 3: Newark; Supplier Part Number 3: 07P9535; Supplier 4: Mouser; Supplier Part Number 4: 579-MCP6054-E/ST; Mounting Technology: Surface Mount; ComponentLink1Description: Manufacturer URL; ComponentLink1URL: http://www.microchip.com/; ComponentLink2Description: Datasheet; ComponentLink2URL: http://ww1.microchip.com/downloads/en/DeviceDoc/MCP6051_DS22182B.pdf; ComponentLink3Description: Package Specification; ComponentLink3URL: http://www.microchip.com/stellent/groups/techpub_sg/documents/packagingspec/en012702.pdf
footprint TSSOP-ST14_N (TSOP, 14-Leads, Body 5x4.4mm, Pitch 0.65mm, IPC Medium Density)
footprint TSSOP-ST14_L (TSOP, 14-Leads, Body 5x4.4mm, Pitch 0.65mm, IPC High Density)
footprint TSSOP-ST14_M (TSOP, 14-Leads, Body 5x4.4mm, Pitch 0.65mm, IPC Low Density)
pins on every part: 4 VDD (power), 11 VSS (power)
part A pins: 1 VOUTA (out), 2 VINA- (in), 3 VINA+ (in)
part B pins: 5 VINB+ (in), 6 VINB- (in), 7 VOUTB (out)
part C pins: 8 VOUTC (out), 9 VINC- (in), 10 VINC+ (in)
part D pins: 12 VIND+ (in), 13 VIND- (in), 14 VOUTD (out)

## MCP6054T-E/SL
designator U?
30 µA, High Precision Quad Op Amp, 14-Pin SOIC, Extended Temperature, Tape and Reel; Manufacturer: Microchip; PartNumber: MCP6054T-E/SL; DatasheetVersion: revB, Dec-2010; PackageVersion: revBB, Aug-2009; PackageReference: SOIC-SL14; PackageDescription: 14-Lead Plastic Small Outline (SL) - Narrow, 3.90mm Body [SOIC]; Supplier 1: Digi-Key; Supplier Part Number 1: MCP6054T-E/SL-ND; Supplier 2: Mouser; Supplier Part Number 2: 579-MCP6054T-E/SL; Mounting Technology: Surface Mount; Code_JEDEC: MS-012-AB; Code_IPC: SOIC127P600-14; ComponentLink1Description: Manufacturer URL; ComponentLink1URL: http://www.microchip.com/; ComponentLink2Description: Datasheet; ComponentLink2URL: http://ww1.microchip.com/downloads/en/DeviceDoc/MCP6051_DS22182B.pdf; ComponentLink3Description: Package Specification; ComponentLink3URL: http://www.microchip.com/stellent/groups/techpub_sg/documents/packagingspec/en012702.pdf
footprint SOIC-SL14_N (SOIC, 14-Leads, Body 8.7x3.9mm, Pitch 1.27mm, IPC Medium Density)
footprint SOIC-SL14_L (SOIC, 14-Leads, Body 8.7x3.9mm, Pitch 1.27mm, IPC High Density)
footprint SOIC-SL14_M (SOIC, 14-Leads, Body 8.7x3.9mm, Pitch 1.27mm, IPC Low Density)
pins on every part: 4 VDD (power), 11 VSS (power)
part A pins: 1 VOUTA (out), 2 VINA- (in), 3 VINA+ (in)
part B pins: 5 VINB+ (in), 6 VINB- (in), 7 VOUTB (out)
part C pins: 8 VOUTC (out), 9 VINC- (in), 10 VINC+ (in)
part D pins: 12 VIND+ (in), 13 VIND- (in), 14 VOUTD (out)

## MCP6054T-E/ST
designator U?
30 µA, High Precision Quad Op Amp, 14-Pin TSSOP, Extended Temperature, Tape and Reel; Manufacturer: Microchip; PartNumber: MCP6054T-E/ST; DatasheetVersion: revB, Dec-2010; PackageVersion: revBB, Aug-2009; PackageReference: TSSOP-ST14; PackageDescription: 14-Lead Plastic Thin Shrink Small Outline (ST) - 4.4mm Body [TSSOP]; Supplier 1: Digi-Key; Supplier Part Number 1: MCP6054T-E/ST-ND; Supplier 2: Newark; Supplier Part Number 2: 07P9537; Supplier 3: Mouser; Supplier Part Number 3: 579-MCP6054T-E/ST; Mounting Technology: Surface Mount; ComponentLink1Description: Manufacturer URL; ComponentLink1URL: http://www.microchip.com/; ComponentLink2Description: Datasheet; ComponentLink2URL: http://ww1.microchip.com/downloads/en/DeviceDoc/MCP6051_DS22182B.pdf; ComponentLink3Description: Package Specification; ComponentLink3URL: http://www.microchip.com/stellent/groups/techpub_sg/documents/packagingspec/en012702.pdf
footprint TSSOP-ST14_N (TSOP, 14-Leads, Body 5x4.4mm, Pitch 0.65mm, IPC Medium Density)
footprint TSSOP-ST14_L (TSOP, 14-Leads, Body 5x4.4mm, Pitch 0.65mm, IPC High Density)
footprint TSSOP-ST14_M (TSOP, 14-Leads, Body 5x4.4mm, Pitch 0.65mm, IPC Low Density)
pins on every part: 4 VDD (power), 11 VSS (power)
part A pins: 1 VOUTA (out), 2 VINA- (in), 3 VINA+ (in)
part B pins: 5 VINB+ (in), 6 VINB- (in), 7 VOUTB (out)
part C pins: 8 VOUTC (out), 9 VINC- (in), 10 VINC+ (in)
part D pins: 12 VIND+ (in), 13 VIND- (in), 14 VOUTD (out)

## MCP6061-E/SN
designator U?
60 µA, High Precision Op Amp, 8-Pin SOIC, Extended Temperature; Manufacturer: Microchip; PartNumber: MCP6061-E/SN; DatasheetVersion: revB, Dec-2010; PackageVersion: revBB, Aug-2009; PackageReference: SOIC-SN8; PackageDescription: 8-Lead Plastic Small Outline (SN) - Narrow, 3.90mm Body [SOIC]; Supplier 1: Digi-Key; Supplier Part Number 1: MCP6061-E/SN-ND; Supplier 2: Farnell; Supplier Part Number 2: 1825028; Supplier 3: Newark; Supplier Part Number 3: 07P9538; Supplier 4: Mouser; Supplier Part Number 4: 579-MCP6061-E/SN; Mounting Technology: Surface Mount; Code_JEDEC: MS-012; Code_IPC: SOIC127P600-8; ComponentLink1Description: Manufacturer URL; ComponentLink1URL: http://www.microchip.com/; ComponentLink2Description: Datasheet; ComponentLink2URL: http://ww1.microchip.com/downloads/en/DeviceDoc/MCP6061_DS22189B.pdf; ComponentLink3Description: Package Specification; ComponentLink3URL: http://www.microchip.com/stellent/groups/techpub_sg/documents/packagingspec/en012702.pdf
footprint SOIC-SN8_N (SOIC, 8-Leads, Body 4.9x3.8mm, Pitch 1.27mm, IPC Medium Density)
footprint SOIC-SN8_L (SOIC, 8-Leads, Body 4.9x3.8mm, Pitch 1.27mm, IPC High Density)
footprint SOIC-SN8_M (SOIC, 8-Leads, Body 4.9x3.8mm, Pitch 1.27mm, IPC Low Density)
pins: 1 NC, 2 VIN- (in), 3 VIN+ (in), 4 VSS (power), 5 NC, 6 VOUT (out), 7 VDD (power), 8 NC

## MCP6061T-E/MNY
designator U?
60 µA, High Precision Op Amp, 8-Pin TDFN, Extended Temperature, Tape and Reel; Manufacturer: Microchip; PartNumber: MCP6061T-E/MNY; DatasheetVersion: revB, Dec-2010; PackageVersion: revBB, Aug-2009; PackageReference: TDFN-MN8; PackageDescription: 8-Lead Plastic Dual Flat, No Lead Package (MN) - 2x3x0.75mm Body [TDFN]; Supplier 1: Digi-Key; Supplier Part Number 1: MCP6061T-E/MNYTR-ND; Supplier 2: Digi-Key; Supplier Part Number 2: MCP6061T-E/MNYCT-ND; Supplier 3: Digi-Key; Supplier Part Number 3: MCP6061T-E/MNYDKR-ND; Supplier 4: Farnell; Supplier Part Number 4: 1852060; Supplier 5: Newark; Supplier Part Number 5: 07P9539; Supplier 6: Mouser; Supplier Part Number 6: 579-MCP6061T-E/MNY; Mounting Technology: Surface Mount; ComponentLink1Description: Manufacturer URL; ComponentLink1URL: http://www.microchip.com/; ComponentLink2Description: Datasheet; ComponentLink2URL: http://ww1.microchip.com/downloads/en/DeviceDoc/MCP6061_DS22189B.pdf; ComponentLink3Description: Package Specification; ComponentLink3URL: http://www.microchip.com/stellent/groups/techpub_sg/documents/packagingspec/en012702.pdf
footprint TDFN-MN8 (SON, 8-Leads, Body 2x3mm, Pitch 0.5mm, Microchip Recommended)
pins: 1 NC, 2 VIN- (in), 3 VIN+ (in), 4 VSS (power), 5 NC, 6 VOUT (out), 7 VDD (power), 8 NC, 9 EP (power)

## MCP6061T-E/OT
designator U?
60 µA, High Precision Op Amp, 5-Pin SOT-23, Extended Temperature, Tape and Reel; Manufacturer: Microchip; PartNumber: MCP6061T-E/OT; DatasheetVersion: revB, Dec-2010; PackageVersion: revBB, Aug-2009; PackageReference: SOT-23-OT5; PackageDescription: 5-Lead Plastic Small Outline Transistor (OT) [SOT-23]; Supplier 1: Digi-Key; Supplier Part Number 1: MCP6061T-E/OTTR-ND; Supplier 2: Digi-Key; Supplier Part Number 2: MCP6061T-E/OTCT-ND; Supplier 3: Digi-Key; Supplier Part Number 3: MCP6061T-E/OTDKR-ND; Supplier 4: Farnell; Supplier Part Number 4: 1863959; Supplier 5: Farnell; Supplier Part Number 5: 1863959RL; Supplier 6: Newark; Supplier Part Number 6: 23T2817; Supplier 7: Mouser; Supplier Part Number 7: 579-MCP6061T-E/OT; Mounting Technology: Surface Mount; Code_IPC: SOT23-5; ComponentLink1Description: Manufacturer URL; ComponentLink1URL: http://www.microchip.com/; ComponentLink2Description: Datasheet; ComponentLink2URL: http://ww1.microchip.com/downloads/en/DeviceDoc/MCP6061_DS22189B.pdf; ComponentLink3Description: Package Specification; ComponentLink3URL: http://www.microchip.com/stellent/groups/techpub_sg/documents/packagingspec/en012702.pdf
footprint SOT-23-OT5_N (SOT23, 5-Leads, Body 2.9x1.6mm, Pitch 0.95mm, Lead Span 2.7mm, IPC Medium Density)
footprint SOT-23-OT5_L (SOT23, 5-Leads, Body 2.9x1.6mm, Pitch 0.95mm, Lead Span 2.7mm, IPC High Density)
footprint SOT-23-OT5_M (SOT23, 5-Leads, Body 2.9x1.6mm, Pitch 0.95mm, Lead Span 2.7mm, IPC Low Density)
pins: 1 VOUT (out), 2 VSS (power), 3 VIN+ (in), 4 VIN- (in), 5 VDD (power)

## MCP6061T-E/SN
designator U?
60 µA, High Precision Op Amp, 8-Pin SOIC, Extended Temperature, Tape and Reel; Manufacturer: Microchip; PartNumber: MCP6061T-E/SN; DatasheetVersion: revB, Dec-2010; PackageVersion: revBB, Aug-2009; PackageReference: SOIC-SN8; PackageDescription: 8-Lead Plastic Small Outline (SN) - Narrow, 3.90mm Body [SOIC]; Supplier 1: Digi-Key; Supplier Part Number 1: MCP6061T-E/SN-ND; Supplier 2: Mouser; Supplier Part Number 2: 579-MCP6061T-E/SN; Mounting Technology: Surface Mount; Code_JEDEC: MS-012; Code_IPC: SOIC127P600-8; ComponentLink1Description: Manufacturer URL; ComponentLink1URL: http://www.microchip.com/; ComponentLink2Description: Datasheet; ComponentLink2URL: http://ww1.microchip.com/downloads/en/DeviceDoc/MCP6061_DS22189B.pdf; ComponentLink3Description: Package Specification; ComponentLink3URL: http://www.microchip.com/stellent/groups/techpub_sg/documents/packagingspec/en012702.pdf
footprint SOIC-SN8_N (SOIC, 8-Leads, Body 4.9x3.8mm, Pitch 1.27mm, IPC Medium Density)
footprint SOIC-SN8_L (SOIC, 8-Leads, Body 4.9x3.8mm, Pitch 1.27mm, IPC High Density)
footprint SOIC-SN8_M (SOIC, 8-Leads, Body 4.9x3.8mm, Pitch 1.27mm, IPC Low Density)
pins: 1 NC, 2 VIN- (in), 3 VIN+ (in), 4 VSS (power), 5 NC, 6 VOUT (out), 7 VDD (power), 8 NC

## MCP6062-E/SN
designator U?
60 µA, High Precision Dual Op Amp, 8-Pin SOIC, Extended Temperature; Manufacturer: Microchip; PartNumber: MCP6062-E/SN; DatasheetVersion: revB, Dec-2010; PackageVersion: revBB, Aug-2009; PackageReference: SOIC-SN8; PackageDescription: 8-Lead Plastic Small Outline (SN) - Narrow, 3.90mm Body [SOIC]; Supplier 1: Digi-Key; Supplier Part Number 1: MCP6062-E/SN-ND; Supplier 2: Farnell; Supplier Part Number 2: 1825029; Supplier 3: Newark; Supplier Part Number 3: 07P9541; Supplier 4: Mouser; Supplier Part Number 4: 579-MCP6062-E/SN; Mounting Technology: Surface Mount; Code_JEDEC: MS-012; Code_IPC: SOIC127P600-8; ComponentLink1Description: Manufacturer URL; ComponentLink1URL: http://www.microchip.com/; ComponentLink2Description: Datasheet; ComponentLink2URL: http://ww1.microchip.com/downloads/en/DeviceDoc/MCP6061_DS22189B.pdf; ComponentLink3Description: Package Specification; ComponentLink3URL: http://www.microchip.com/stellent/groups/techpub_sg/documents/packagingspec/en012702.pdf
footprint SOIC-SN8_N (SOIC, 8-Leads, Body 4.9x3.8mm, Pitch 1.27mm, IPC Medium Density)
footprint SOIC-SN8_L (SOIC, 8-Leads, Body 4.9x3.8mm, Pitch 1.27mm, IPC High Density)
footprint SOIC-SN8_M (SOIC, 8-Leads, Body 4.9x3.8mm, Pitch 1.27mm, IPC Low Density)
pins on every part: 4 VSS (power), 8 VDD (power)
part A pins: 1 VOUTA (out), 2 VINA- (in), 3 VINA+ (in)
part B pins: 5 VINB+ (in), 6 VINB- (in), 7 VOUTB (out)

## MCP6062T-E/MNY
designator U?
60 µA, High Precision Dual Op Amp, 8-Pin TDFN, Extended Temperature, Tape and Reel; Manufacturer: Microchip; PartNumber: MCP6062T-E/MNY; DatasheetVersion: revB, Dec-2010; PackageVersion: revBB, Aug-2009; PackageReference: TDFN-MN8; PackageDescription: 8-Lead Plastic Dual Flat, No Lead Package (MN) - 2x3x0.75mm Body [TDFN]; Supplier 1: Digi-Key; Supplier Part Number 1: MCP6062T-E/MNYTR-ND; Supplier 2: Digi-Key; Supplier Part Number 2: MCP6062T-E/MNYCT-ND; Supplier 3: Digi-Key; Supplier Part Number 3: MCP6062T-E/MNYDKR-ND; Supplier 4: Farnell; Supplier Part Number 4: 1852062; Supplier 5: Newark; Supplier Part Number 5: 64T1909; Supplier 6: Mouser; Supplier Part Number 6: 579-MCP6062T-E/MNY; Mounting Technology: Surface Mount; ComponentLink1Description: Manufacturer URL; ComponentLink1URL: http://www.microchip.com/; ComponentLink2Description: Datasheet; ComponentLink2URL: http://ww1.microchip.com/downloads/en/DeviceDoc/MCP6061_DS22189B.pdf; ComponentLink3Description: Package Specification; ComponentLink3URL: http://www.microchip.com/stellent/groups/techpub_sg/documents/packagingspec/en012702.pdf
footprint TDFN-MN8 (SON, 8-Leads, Body 2x3mm, Pitch 0.5mm, Microchip Recommended)
pins on every part: 4 VSS (power), 8 VDD (power), 9 EP (power)
part A pins: 1 VOUTA (out), 2 VINA- (in), 3 VINA+ (in)
part B pins: 5 VINB+ (in), 6 VINB- (in), 7 VOUTB (out)